# Altium schematic symbol library DAC70504RTET.SchLib: 1 symbol
Pins are listed as number, name and electrical type; pins without a type are passive.

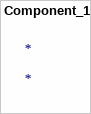
[diagram p0: symbol Component_1]

## Component_1
designator *
pins: 1 REF, 2 OUT0, 3 OUT1, 4 OUT2, 5 OUT3, 6 GND, 7 VDD, 8 GAIN, 9 RSTSEL, 10 REFDIF, 11 LDAC, 12 CS, 13 SCLK, 14 SDI, 15 SDO/ALARM, 16 VIO